# Altium schematic symbol library jlcpcb_2025_04_capacitors_extended_1812.schlib: 342 symbols (part 7 of 7)
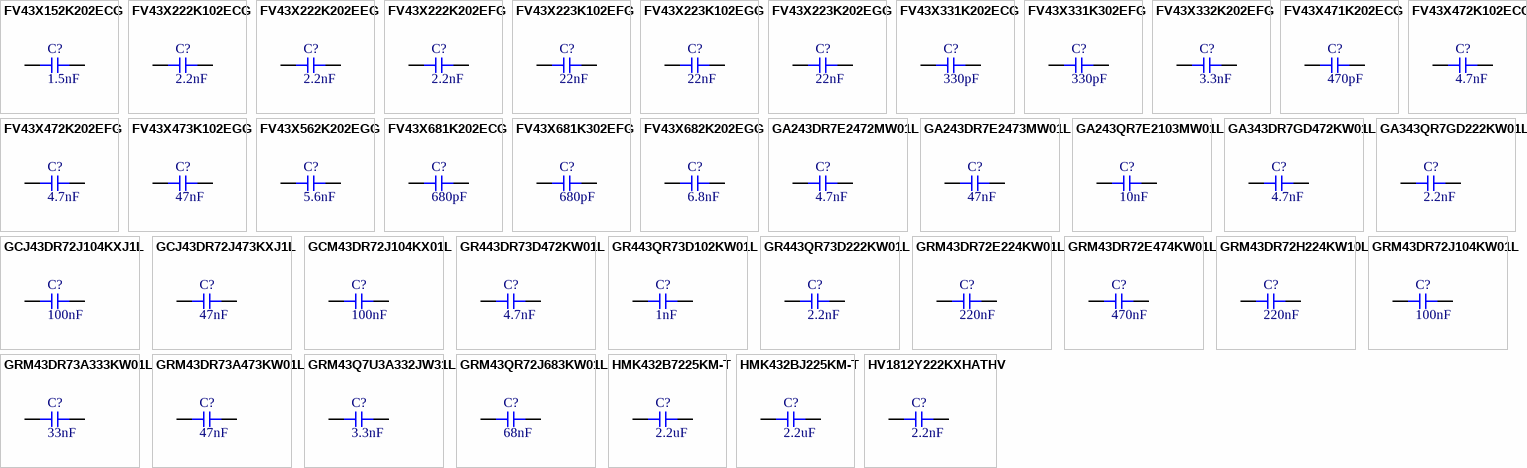
[diagram p14: symbols FV43X152K202ECG to HV1812Y222KXHATHV]

## GA343QR7GD222KW01L
designator C?  Capacitance: 2.2nF  (hidden comment: *)
Capacitor, Ceramic (MLCC), 2.2nF, ±10%, 250V, X7R, ±10%, SMD 1812; Manufacturer: Murata Electronics; Manufacturer Part Number: GA343QR7GD222KW01L; Package Size: 1812; JLCPCB Basic Part: No; JLCPCB Part Number: C161102; Supplier 1: LCSC; Category: Capacitors - MLCC; Supplier Part Number 1: C161102; Tolerance: ±10%; Voltage Rating: 250V; Temperature Coefficient: X7R; RoHS: Yes; ComponentLink1Description: Datasheet; ComponentLink1URL: https://wmsc.lcsc.com/wmsc/upload/file/pdf/v2/lcsc/1808140041_Murata-Electronics-GA343QR7GD222KW01L_C161102.pdf; ComponentLink2Description: JLCPCB Part URL; ComponentLink2URL: https://jlcpcb.com/partdetail/C161102; ComponentLink3Description: LCSC Part URL; ComponentLink3URL: https://lcsc.com/product-detail/Multilayer-Ceramic-Capacitors-MLCC---SMD-SMT_Murata-Electronics-Murata-Electronics-GA343QR7GD222KW01L_C161102.html
footprint CAP-1812 (1812 (4532M) Capacitor)
pins: 1, 2

## GCJ43DR72J104KXJ1L
designator C?  Capacitance: 100nF  (hidden comment: *)
Capacitor, Ceramic (MLCC), 100nF, ±10%, 630V, X7R, ±10%, SMD 1812; Manufacturer: Murata Electronics; Manufacturer Part Number: GCJ43DR72J104KXJ1L; Package Size: 1812; JLCPCB Basic Part: No; JLCPCB Part Number: C161126; Supplier 1: LCSC; Category: Capacitors - MLCC; Supplier Part Number 1: C161126; Tolerance: ±10%; Voltage Rating: 630V; Temperature Coefficient: X7R; RoHS: Yes; ComponentLink1Description: Datasheet; ComponentLink1URL: https://wmsc.lcsc.com/wmsc/upload/file/pdf/v2/lcsc/1808140041_Murata-Electronics-GCJ43DR72J104KXJ1L_C161126.pdf; ComponentLink2Description: JLCPCB Part URL; ComponentLink2URL: https://jlcpcb.com/partdetail/C161126; ComponentLink3Description: LCSC Part URL; ComponentLink3URL: https://lcsc.com/product-detail/Multilayer-Ceramic-Capacitors-MLCC---SMD-SMT_Murata-Electronics-Murata-Electronics-GCJ43DR72J104KXJ1L_C161126.html
footprint CAP-1812 (1812 (4532M) Capacitor)
pins: 1, 2

## GCJ43DR72J473KXJ1L
designator C?  Capacitance: 47nF  (hidden comment: *)
Capacitor, Ceramic (MLCC), 47nF, ±10%, 630V, X7R, ±10%, SMD 1812; Manufacturer: Murata Electronics; Manufacturer Part Number: GCJ43DR72J473KXJ1L; Package Size: 1812; JLCPCB Basic Part: No; JLCPCB Part Number: C161127; Supplier 1: LCSC; Category: Capacitors - MLCC; Supplier Part Number 1: C161127; Tolerance: ±10%; Voltage Rating: 630V; Temperature Coefficient: X7R; RoHS: Yes; ComponentLink1Description: Datasheet; ComponentLink1URL: https://wmsc.lcsc.com/wmsc/upload/file/pdf/v2/lcsc/1809172039_Murata-Electronics-GCJ43DR72J473KXJ1L_C161127.pdf; ComponentLink2Description: JLCPCB Part URL; ComponentLink2URL: https://jlcpcb.com/partdetail/C161127; ComponentLink3Description: LCSC Part URL; ComponentLink3URL: https://lcsc.com/product-detail/Multilayer-Ceramic-Capacitors-MLCC---SMD-SMT_Murata-Electronics-Murata-Electronics-GCJ43DR72J473KXJ1L_C161127.html
footprint CAP-1812 (1812 (4532M) Capacitor)
pins: 1, 2

## GCM43DR72J104KX01L
designator C?  Capacitance: 100nF  (hidden comment: *)
Capacitor, Ceramic (MLCC), 100nF, ±10%, 630V, X7R, ±10%, SMD 1812; Manufacturer: Murata Electronics; Manufacturer Part Number: GCM43DR72J104KX01L; Package Size: 1812; JLCPCB Basic Part: No; JLCPCB Part Number: C907754; Supplier 1: LCSC; Category: Capacitors - MLCC; Supplier Part Number 1: C907754; Tolerance: ±10%; Voltage Rating: 630V; Temperature Coefficient: X7R; RoHS: Yes; ComponentLink1Description: Datasheet; ComponentLink1URL: https://wmsc.lcsc.com/wmsc/upload/file/pdf/v2/lcsc/2206301900_Murata-Electronics-GCM43DR72J104KX01L_C907754.pdf; ComponentLink2Description: JLCPCB Part URL; ComponentLink2URL: https://jlcpcb.com/partdetail/C907754; ComponentLink3Description: LCSC Part URL; ComponentLink3URL: https://lcsc.com/product-detail/Multilayer-Ceramic-Capacitors-MLCC---SMD-SMT_Murata-Electronics-Murata-Electronics-GCM43DR72J104KX01L_C907754.html
footprint CAP-1812 (1812 (4532M) Capacitor)
pins: 1, 2

## GR443DR73D472KW01L
designator C?  Capacitance: 4.7nF  (hidden comment: *)
Capacitor, Ceramic (MLCC), 4.7nF, ±10%, 2kV, X7R, ±10%, SMD 1812; Manufacturer: Murata Electronics; Manufacturer Part Number: GR443DR73D472KW01L; Package Size: 1812; JLCPCB Basic Part: No; JLCPCB Part Number: C161356; Supplier 1: LCSC; Category: Capacitors - MLCC; Supplier Part Number 1: C161356; Tolerance: ±10%; Voltage Rating: 2kV; Temperature Coefficient: X7R; RoHS: Yes; ComponentLink1Description: Datasheet; ComponentLink1URL: https://wmsc.lcsc.com/wmsc/upload/file/pdf/v2/lcsc/1808280516_Murata-Electronics-GR443DR73D472KW01L_C161356.pdf; ComponentLink2Description: JLCPCB Part URL; ComponentLink2URL: https://jlcpcb.com/partdetail/C161356; ComponentLink3Description: LCSC Part URL; ComponentLink3URL: https://lcsc.com/product-detail/Multilayer-Ceramic-Capacitors-MLCC---SMD-SMT_Murata-Electronics-Murata-Electronics-GR443DR73D472KW01L_C161356.html
footprint CAP-1812 (1812 (4532M) Capacitor)
pins: 1, 2

## GR443QR73D102KW01L
designator C?  Capacitance: 1nF  (hidden comment: *)
Capacitor, Ceramic (MLCC), 1nF, ±10%, 2kV, X7R, ±10%, SMD 1812; Manufacturer: Murata Electronics; Manufacturer Part Number: GR443QR73D102KW01L; Package Size: 1812; JLCPCB Basic Part: No; JLCPCB Part Number: C161357; Supplier 1: LCSC; Category: Capacitors - MLCC; Supplier Part Number 1: C161357; Tolerance: ±10%; Voltage Rating: 2kV; Temperature Coefficient: X7R; RoHS: Yes; ComponentLink1Description: Datasheet; ComponentLink1URL: https://wmsc.lcsc.com/wmsc/upload/file/pdf/v2/lcsc/1808280516_Murata-Electronics-GR443QR73D102KW01L_C161357.pdf; ComponentLink2Description: JLCPCB Part URL; ComponentLink2URL: https://jlcpcb.com/partdetail/C161357; ComponentLink3Description: LCSC Part URL; ComponentLink3URL: https://lcsc.com/product-detail/Multilayer-Ceramic-Capacitors-MLCC---SMD-SMT_Murata-Electronics-Murata-Electronics-GR443QR73D102KW01L_C161357.html
footprint CAP-1812 (1812 (4532M) Capacitor)
pins: 1, 2

## GR443QR73D222KW01L
designator C?  Capacitance: 2.2nF  (hidden comment: *)
Capacitor, Ceramic (MLCC), 2.2nF, ±10%, 2kV, X7R, ±10%, SMD 1812; Manufacturer: Murata Electronics; Manufacturer Part Number: GR443QR73D222KW01L; Package Size: 1812; JLCPCB Basic Part: No; JLCPCB Part Number: C85886; Supplier 1: LCSC; Category: Capacitors - MLCC; Supplier Part Number 1: C85886; Tolerance: ±10%; Voltage Rating: 2kV; Temperature Coefficient: X7R; RoHS: Yes; ComponentLink1Description: Datasheet; ComponentLink1URL: https://wmsc.lcsc.com/wmsc/upload/file/pdf/v2/lcsc/2304140030_Murata-Electronics-GR443QR73D222KW01L_C85886.pdf; ComponentLink2Description: JLCPCB Part URL; ComponentLink2URL: https://jlcpcb.com/partdetail/C85886; ComponentLink3Description: LCSC Part URL; ComponentLink3URL: https://lcsc.com/product-detail/Multilayer-Ceramic-Capacitors-MLCC---SMD-SMT_Murata-Electronics-Murata-Electronics-GR443QR73D222KW01L_C85886.html
footprint CAP-1812 (1812 (4532M) Capacitor)
pins: 1, 2

## GRM43DR72E224KW01L
designator C?  Capacitance: 220nF  (hidden comment: *)
Capacitor, Ceramic (MLCC), 220nF, ±10%, 250V, X7R, ±10%, SMD 1812; Manufacturer: Murata Electronics; Manufacturer Part Number: GRM43DR72E224KW01L; Package Size: 1812; JLCPCB Basic Part: No; JLCPCB Part Number: C913726; Supplier 1: LCSC; Category: Capacitors - MLCC; Supplier Part Number 1: C913726; Tolerance: ±10%; Voltage Rating: 250V; Temperature Coefficient: X7R; RoHS: Yes; ComponentLink1Description: Datasheet; ComponentLink1URL: https://wmsc.lcsc.com/wmsc/upload/file/pdf/v2/lcsc/2201131300_Murata-Electronics-GRM43DR72E224KW01L_C913726.pdf; ComponentLink2Description: JLCPCB Part URL; ComponentLink2URL: https://jlcpcb.com/partdetail/C913726; ComponentLink3Description: LCSC Part URL; ComponentLink3URL: https://lcsc.com/product-detail/Multilayer-Ceramic-Capacitors-MLCC---SMD-SMT_Murata-Electronics-Murata-Electronics-GRM43DR72E224KW01L_C913726.html
footprint CAP-1812 (1812 (4532M) Capacitor)
pins: 1, 2

## GRM43DR72E474KW01L
designator C?  Capacitance: 470nF  (hidden comment: *)
Capacitor, Ceramic (MLCC), 470nF, ±10%, 250V, X7R, ±10%, SMD 1812; Manufacturer: Murata Electronics; Manufacturer Part Number: GRM43DR72E474KW01L; Package Size: 1812; JLCPCB Basic Part: No; JLCPCB Part Number: C86055; Supplier 1: LCSC; Category: Capacitors - MLCC; Supplier Part Number 1: C86055; Tolerance: ±10%; Voltage Rating: 250V; Temperature Coefficient: X7R; RoHS: Yes; ComponentLink1Description: Datasheet; ComponentLink1URL: https://wmsc.lcsc.com/wmsc/upload/file/pdf/v2/lcsc/2304140030_Murata-Electronics-GRM43DR72E474KW01L_C86055.pdf; ComponentLink2Description: JLCPCB Part URL; ComponentLink2URL: https://jlcpcb.com/partdetail/C86055; ComponentLink3Description: LCSC Part URL; ComponentLink3URL: https://lcsc.com/product-detail/Multilayer-Ceramic-Capacitors-MLCC---SMD-SMT_Murata-Electronics-Murata-Electronics-GRM43DR72E474KW01L_C86055.html
footprint CAP-1812 (1812 (4532M) Capacitor)
pins: 1, 2

## GRM43DR72H224KW10L
designator C?  Capacitance: 220nF  (hidden comment: *)
Capacitor, Ceramic (MLCC), 220nF, ±10%, 500V, X7R, ±10%, SMD 1812; Manufacturer: Murata Electronics; Manufacturer Part Number: GRM43DR72H224KW10L; Package Size: 1812; JLCPCB Basic Part: No; JLCPCB Part Number: C162519; Supplier 1: LCSC; Category: Capacitors - MLCC; Supplier Part Number 1: C162519; Tolerance: ±10%; Voltage Rating: 500V; Temperature Coefficient: X7R; RoHS: Yes; ComponentLink1Description: Datasheet; ComponentLink1URL: https://wmsc.lcsc.com/wmsc/upload/file/pdf/v2/lcsc/1810092142_Murata-Electronics-GRM43DR72H224KW10L_C162519.pdf; ComponentLink2Description: JLCPCB Part URL; ComponentLink2URL: https://jlcpcb.com/partdetail/C162519; ComponentLink3Description: LCSC Part URL; ComponentLink3URL: https://lcsc.com/product-detail/Multilayer-Ceramic-Capacitors-MLCC---SMD-SMT_Murata-Electronics-Murata-Electronics-GRM43DR72H224KW10L_C162519.html
footprint CAP-1812 (1812 (4532M) Capacitor)
pins: 1, 2

## GRM43DR72J104KW01L
designator C?  Capacitance: 100nF  (hidden comment: *)
Capacitor, Ceramic (MLCC), 100nF, ±10%, 630V, X7R, ±10%, SMD 1812; Manufacturer: Murata Electronics; Manufacturer Part Number: GRM43DR72J104KW01L; Package Size: 1812; JLCPCB Basic Part: No; JLCPCB Part Number: C23743; Supplier 1: LCSC; Category: Capacitors - MLCC; Supplier Part Number 1: C23743; Tolerance: ±10%; Voltage Rating: 630V; Temperature Coefficient: X7R; RoHS: Yes; ComponentLink1Description: Datasheet; ComponentLink1URL: https://wmsc.lcsc.com/wmsc/upload/file/pdf/v2/lcsc/1810101610_Murata-Electronics-GRM43DR72J104KW01L_C23743.pdf; ComponentLink2Description: JLCPCB Part URL; ComponentLink2URL: https://jlcpcb.com/partdetail/C23743; ComponentLink3Description: LCSC Part URL; ComponentLink3URL: https://lcsc.com/product-detail/Multilayer-Ceramic-Capacitors-MLCC---SMD-SMT_Murata-Electronics-Murata-Electronics-GRM43DR72J104KW01L_C23743.html
footprint CAP-1812 (1812 (4532M) Capacitor)
pins: 1, 2

## GRM43DR73A333KW01L
designator C?  Capacitance: 33nF  (hidden comment: *)
Capacitor, Ceramic (MLCC), 33nF, ±10%, 1kV, X7R, ±10%, SMD 1812; Manufacturer: Murata Electronics; Manufacturer Part Number: GRM43DR73A333KW01L; Package Size: 1812; JLCPCB Basic Part: No; JLCPCB Part Number: C97977; Supplier 1: LCSC; Category: Capacitors - MLCC; Supplier Part Number 1: C97977; Tolerance: ±10%; Voltage Rating: 1kV; Temperature Coefficient: X7R; RoHS: Yes; ComponentLink1Description: Datasheet; ComponentLink1URL: https://wmsc.lcsc.com/wmsc/upload/file/pdf/v2/lcsc/1809172036_Murata-Electronics-GRM43DR73A333KW01L_C97977.pdf; ComponentLink2Description: JLCPCB Part URL; ComponentLink2URL: https://jlcpcb.com/partdetail/C97977; ComponentLink3Description: LCSC Part URL; ComponentLink3URL: https://lcsc.com/product-detail/Multilayer-Ceramic-Capacitors-MLCC---SMD-SMT_Murata-Electronics-Murata-Electronics-GRM43DR73A333KW01L_C97977.html
footprint CAP-1812 (1812 (4532M) Capacitor)
pins: 1, 2

## GRM43DR73A473KW01L
designator C?  Capacitance: 47nF  (hidden comment: *)
Capacitor, Ceramic (MLCC), 47nF, ±10%, 1kV, X7R, ±10%, SMD 1812; Manufacturer: Murata Electronics; Manufacturer Part Number: GRM43DR73A473KW01L; Package Size: 1812; JLCPCB Basic Part: No; JLCPCB Part Number: C97978; Supplier 1: LCSC; Category: Capacitors - MLCC; Supplier Part Number 1: C97978; Tolerance: ±10%; Voltage Rating: 1kV; Temperature Coefficient: X7R; RoHS: Yes; ComponentLink1Description: Datasheet; ComponentLink1URL: https://wmsc.lcsc.com/wmsc/upload/file/pdf/v2/lcsc/1809172036_Murata-Electronics-GRM43DR73A473KW01L_C97978.pdf; ComponentLink2Description: JLCPCB Part URL; ComponentLink2URL: https://jlcpcb.com/partdetail/C97978; ComponentLink3Description: LCSC Part URL; ComponentLink3URL: https://lcsc.com/product-detail/Multilayer-Ceramic-Capacitors-MLCC---SMD-SMT_Murata-Electronics-Murata-Electronics-GRM43DR73A473KW01L_C97978.html
footprint CAP-1812 (1812 (4532M) Capacitor)
pins: 1, 2

## GRM43Q7U3A332JW31L
designator C?  Capacitance: 3.3nF  (hidden comment: *)
Capacitor, Ceramic (MLCC), 3.3nF, ±5%, 1kV, U2J, ±5%, SMD 1812; Manufacturer: Murata Electronics; Manufacturer Part Number: GRM43Q7U3A332JW31L; Package Size: 1812; JLCPCB Basic Part: No; JLCPCB Part Number: C162520; Supplier 1: LCSC; Category: Capacitors - MLCC; Supplier Part Number 1: C162520; Tolerance: ±5%; Voltage Rating: 1kV; Temperature Coefficient: U2J; RoHS: Yes; ComponentLink1Description: Datasheet; ComponentLink1URL: https://wmsc.lcsc.com/wmsc/upload/file/pdf/v2/lcsc/1808140034_Murata-Electronics-GRM43Q7U3A332JW31L_C162520.pdf; ComponentLink2Description: JLCPCB Part URL; ComponentLink2URL: https://jlcpcb.com/partdetail/C162520; ComponentLink3Description: LCSC Part URL; ComponentLink3URL: https://lcsc.com/product-detail/Multilayer-Ceramic-Capacitors-MLCC---SMD-SMT_Murata-Electronics-Murata-Electronics-GRM43Q7U3A332JW31L_C162520.html
footprint CAP-1812 (1812 (4532M) Capacitor)
pins: 1, 2

## GRM43QR72J683KW01L
designator C?  Capacitance: 68nF  (hidden comment: *)
Capacitor, Ceramic (MLCC), 68nF, ±10%, 630V, X7R, ±10%, SMD 1812; Manufacturer: Murata Electronics; Manufacturer Part Number: GRM43QR72J683KW01L; Package Size: 1812; JLCPCB Basic Part: No; JLCPCB Part Number: C162521; Supplier 1: LCSC; Category: Capacitors - MLCC; Supplier Part Number 1: C162521; Tolerance: ±10%; Voltage Rating: 630V; Temperature Coefficient: X7R; RoHS: Yes; ComponentLink1Description: Datasheet; ComponentLink1URL: https://wmsc.lcsc.com/wmsc/upload/file/pdf/v2/lcsc/2304140030_Murata-Electronics-GRM43QR72J683KW01L_C162521.pdf; ComponentLink2Description: JLCPCB Part URL; ComponentLink2URL: https://jlcpcb.com/partdetail/C162521; ComponentLink3Description: LCSC Part URL; ComponentLink3URL: https://lcsc.com/product-detail/Multilayer-Ceramic-Capacitors-MLCC---SMD-SMT_Murata-Electronics-Murata-Electronics-GRM43QR72J683KW01L_C162521.html
footprint CAP-1812 (1812 (4532M) Capacitor)
pins: 1, 2

## HMK432B7225KM-T
designator C?  Capacitance: 2.2uF  (hidden comment: *)
Capacitor, Ceramic (MLCC), 2.2uF, ±10%, 100V, X7R, ±10%, SMD 1812; Manufacturer: Taiyo Yuden; Manufacturer Part Number: HMK432B7225KM-T; Package Size: 1812; JLCPCB Basic Part: No; JLCPCB Part Number: C319194; Supplier 1: LCSC; Category: Capacitors - MLCC; Supplier Part Number 1: C319194; Tolerance: ±10%; Voltage Rating: 100V; Temperature Coefficient: X7R; RoHS: Yes; ComponentLink1Description: Datasheet; ComponentLink1URL: https://wmsc.lcsc.com/wmsc/upload/file/pdf/v2/lcsc/2211282230_Taiyo-Yuden-HMK432B7225KM-T_C319194.pdf; ComponentLink2Description: JLCPCB Part URL; ComponentLink2URL: https://jlcpcb.com/partdetail/C319194; ComponentLink3Description: LCSC Part URL; ComponentLink3URL: https://lcsc.com/product-detail/Multilayer-Ceramic-Capacitors-MLCC---SMD-SMT_Taiyo-Yuden-Taiyo-Yuden-HMK432B7225KM-T_C319194.html
footprint CAP-1812 (1812 (4532M) Capacitor)
pins: 1, 2

## HMK432BJ225KM-T
designator C?  Capacitance: 2.2uF  (hidden comment: *)
Capacitor, Ceramic (MLCC), 2.2uF, ±10%, 100V, X5R, ±10%, SMD 1812; Manufacturer: Taiyo Yuden; Manufacturer Part Number: HMK432BJ225KM-T; Package Size: 1812; JLCPCB Basic Part: No; JLCPCB Part Number: C524995; Supplier 1: LCSC; Category: Capacitors - MLCC; Supplier Part Number 1: C524995; Tolerance: ±10%; Voltage Rating: 100V; Temperature Coefficient: X5R; RoHS: Yes; ComponentLink1Description: Datasheet; ComponentLink1URL: https://wmsc.lcsc.com/wmsc/upload/file/pdf/v2/lcsc/2211282200_Taiyo-Yuden-HMK432BJ225KM-T_C524995.pdf; ComponentLink2Description: JLCPCB Part URL; ComponentLink2URL: https://jlcpcb.com/partdetail/C524995; ComponentLink3Description: LCSC Part URL; ComponentLink3URL: https://lcsc.com/product-detail/Multilayer-Ceramic-Capacitors-MLCC---SMD-SMT_Taiyo-Yuden-Taiyo-Yuden-HMK432BJ225KM-T_C524995.html
footprint CAP-1812 (1812 (4532M) Capacitor)
pins: 1, 2

## HV1812Y222KXHATHV
designator C?  Capacitance: 2.2nF  (hidden comment: *)
Capacitor, Ceramic (MLCC), 2.2nF, ±10%, 3kV, X7R, ±10%, SMD 1812; Manufacturer: Vishay Intertech; Manufacturer Part Number: HV1812Y222KXHATHV; Package Size: 1812; JLCPCB Basic Part: No; JLCPCB Part Number: C2182620; Supplier 1: LCSC; Category: Capacitors - MLCC; Supplier Part Number 1: C2182620; Tolerance: ±10%; Voltage Rating: 3kV; Temperature Coefficient: X7R; RoHS: Yes; ComponentLink1Description: Datasheet; ComponentLink1URL: https://wmsc.lcsc.com/wmsc/upload/file/pdf/v2/lcsc/2304140030_Vishay-Intertech-HV1812Y222KXHATHV_C2182620.pdf; ComponentLink2Description: JLCPCB Part URL; ComponentLink2URL: https://jlcpcb.com/partdetail/C2182620; ComponentLink3Description: LCSC Part URL; ComponentLink3URL: https://lcsc.com/product-detail/Multilayer-Ceramic-Capacitors-MLCC---SMD-SMT_Vishay-Intertech-Vishay-Intertech-HV1812Y222KXHATHV_C2182620.html
footprint CAP-1812 (1812 (4532M) Capacitor)
pins: 1, 2

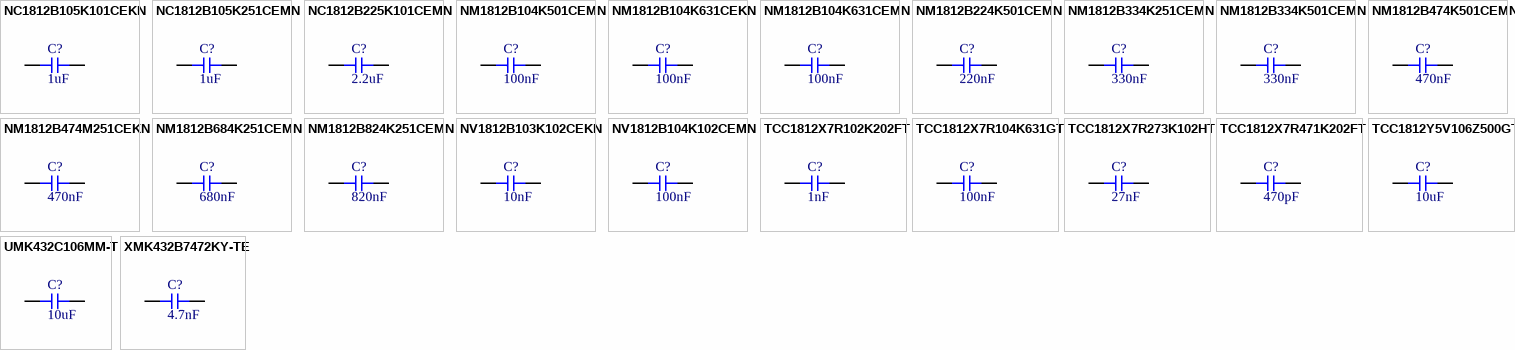
[diagram p8: symbols NC1812B105K101CEKN to XMK432B7472KY-TE]

## NC1812B105K101CEKN
designator C?  Capacitance: 1uF  (hidden comment: *)
Capacitor, Ceramic (MLCC), 1uF, ±10%, 100V, ±10%, SMD 1812; Manufacturer: HUI JU; Manufacturer Part Number: NC1812B105K101CEKN; Package Size: 1812; JLCPCB Basic Part: No; JLCPCB Part Number: C1884498; Supplier 1: LCSC; Category: Capacitors - MLCC; Supplier Part Number 1: C1884498; Tolerance: ±10%; Voltage Rating: 100V; RoHS: Yes; ComponentLink1Description: Datasheet; ComponentLink1URL: https://wmsc.lcsc.com/wmsc/upload/file/pdf/v2/lcsc/2304140030_HUI-JU-NC1812B105K101CEKN_C1884498.pdf; ComponentLink2Description: JLCPCB Part URL; ComponentLink2URL: https://jlcpcb.com/partdetail/C1884498; ComponentLink3Description: LCSC Part URL; ComponentLink3URL: https://lcsc.com/product-detail/Multilayer-Ceramic-Capacitors-MLCC---SMD-SMT_HUI-JU-HUI-JU-NC1812B105K101CEKN_C1884498.html
footprint CAP-1812 (1812 (4532M) Capacitor)
pins: 1, 2

## NC1812B105K251CEMN
designator C?  Capacitance: 1uF  (hidden comment: *)
Capacitor, Ceramic (MLCC), 1uF, ±10%, 250V, X7R, ±10%, SMD 1812; Manufacturer: HUI JU; Manufacturer Part Number: NC1812B105K251CEMN; Package Size: 1812; JLCPCB Basic Part: No; JLCPCB Part Number: C840322; Supplier 1: LCSC; Category: Capacitors - MLCC; Supplier Part Number 1: C840322; Tolerance: ±10%; Voltage Rating: 250V; Temperature Coefficient: X7R; RoHS: Yes; ComponentLink1Description: Datasheet; ComponentLink1URL: https://wmsc.lcsc.com/wmsc/upload/file/pdf/v2/lcsc/2304140030_HUI-JU-NC1812B105K251CEMN_C840322.pdf; ComponentLink2Description: JLCPCB Part URL; ComponentLink2URL: https://jlcpcb.com/partdetail/C840322; ComponentLink3Description: LCSC Part URL; ComponentLink3URL: https://lcsc.com/product-detail/Multilayer-Ceramic-Capacitors-MLCC---SMD-SMT_HUI-JU-HUI-JU-NC1812B105K251CEMN_C840322.html
footprint CAP-1812 (1812 (4532M) Capacitor)
pins: 1, 2

## NC1812B225K101CEMN
designator C?  Capacitance: 2.2uF  (hidden comment: *)
Capacitor, Ceramic (MLCC), 2.2uF, ±10%, 100V, X7R, ±10%, SMD 1812; Manufacturer: HUI JU; Manufacturer Part Number: NC1812B225K101CEMN; Package Size: 1812; JLCPCB Basic Part: No; JLCPCB Part Number: C840323; Supplier 1: LCSC; Category: Capacitors - MLCC; Supplier Part Number 1: C840323; Tolerance: ±10%; Voltage Rating: 100V; Temperature Coefficient: X7R; RoHS: Yes; ComponentLink1Description: Datasheet; ComponentLink1URL: https://wmsc.lcsc.com/wmsc/upload/file/pdf/v2/lcsc/2304140030_HUI-JU-NC1812B225K101CEMN_C840323.pdf; ComponentLink2Description: JLCPCB Part URL; ComponentLink2URL: https://jlcpcb.com/partdetail/C840323; ComponentLink3Description: LCSC Part URL; ComponentLink3URL: https://lcsc.com/product-detail/Multilayer-Ceramic-Capacitors-MLCC---SMD-SMT_HUI-JU-HUI-JU-NC1812B225K101CEMN_C840323.html
footprint CAP-1812 (1812 (4532M) Capacitor)
pins: 1, 2

## NM1812B104K501CEMN
designator C?  Capacitance: 100nF  (hidden comment: *)
Capacitor, Ceramic (MLCC), 100nF, ±10%, 500V, X7R, ±10%, SMD 1812; Manufacturer: HUI JU; Manufacturer Part Number: NM1812B104K501CEMN; Package Size: 1812; JLCPCB Basic Part: No; JLCPCB Part Number: C784434; Supplier 1: LCSC; Category: Capacitors - MLCC; Supplier Part Number 1: C784434; Tolerance: ±10%; Voltage Rating: 500V; Temperature Coefficient: X7R; RoHS: Yes; ComponentLink1Description: Datasheet; ComponentLink1URL: https://wmsc.lcsc.com/wmsc/upload/file/pdf/v2/lcsc/2304140030_HUI-JU-NM1812B104K501CEMN_C784434.pdf; ComponentLink2Description: JLCPCB Part URL; ComponentLink2URL: https://jlcpcb.com/partdetail/C784434; ComponentLink3Description: LCSC Part URL; ComponentLink3URL: https://lcsc.com/product-detail/Multilayer-Ceramic-Capacitors-MLCC---SMD-SMT_HUI-JU-HUI-JU-NM1812B104K501CEMN_C784434.html
footprint CAP-1812 (1812 (4532M) Capacitor)
pins: 1, 2

## NM1812B104K631CEKN
designator C?  Capacitance: 100nF  (hidden comment: *)
Capacitor, Ceramic (MLCC), 100nF, ±10%, 630V, X7R, ±10%, SMD 1812; Manufacturer: HUI JU; Manufacturer Part Number: NM1812B104K631CEKN; Package Size: 1812; JLCPCB Basic Part: No; JLCPCB Part Number: C710484; Supplier 1: LCSC; Category: Capacitors - MLCC; Supplier Part Number 1: C710484; Tolerance: ±10%; Voltage Rating: 630V; Temperature Coefficient: X7R; RoHS: Yes; ComponentLink1Description: Datasheet; ComponentLink1URL: https://wmsc.lcsc.com/wmsc/upload/file/pdf/v2/lcsc/2304140030_HUI-JU-NM1812B104K631CEKN_C710484.pdf; ComponentLink2Description: JLCPCB Part URL; ComponentLink2URL: https://jlcpcb.com/partdetail/C710484; ComponentLink3Description: LCSC Part URL; ComponentLink3URL: https://lcsc.com/product-detail/Multilayer-Ceramic-Capacitors-MLCC---SMD-SMT_HUI-JU-HUI-JU-NM1812B104K631CEKN_C710484.html
footprint CAP-1812 (1812 (4532M) Capacitor)
pins: 1, 2

## NM1812B104K631CEMN
designator C?  Capacitance: 100nF  (hidden comment: *)
Capacitor, Ceramic (MLCC), 100nF, ±10%, 630V, X7R, ±10%, SMD 1812; Manufacturer: HUI JU; Manufacturer Part Number: NM1812B104K631CEMN; Package Size: 1812; JLCPCB Basic Part: No; JLCPCB Part Number: C784435; Supplier 1: LCSC; Category: Capacitors - MLCC; Supplier Part Number 1: C784435; Tolerance: ±10%; Voltage Rating: 630V; Temperature Coefficient: X7R; RoHS: Yes; ComponentLink1Description: Datasheet; ComponentLink1URL: https://wmsc.lcsc.com/wmsc/upload/file/pdf/v2/lcsc/2304140030_HUI-JU-NM1812B104K631CEMN_C784435.pdf; ComponentLink2Description: JLCPCB Part URL; ComponentLink2URL: https://jlcpcb.com/partdetail/C784435; ComponentLink3Description: LCSC Part URL; ComponentLink3URL: https://lcsc.com/product-detail/Multilayer-Ceramic-Capacitors-MLCC---SMD-SMT_HUI-JU-HUI-JU-NM1812B104K631CEMN_C784435.html
footprint CAP-1812 (1812 (4532M) Capacitor)
pins: 1, 2

## NM1812B224K501CEMN
designator C?  Capacitance: 220nF  (hidden comment: *)
Capacitor, Ceramic (MLCC), 220nF, ±10%, 500V, ±10%, SMD 1812; Manufacturer: HUI JU; Manufacturer Part Number: NM1812B224K501CEMN; Package Size: 1812; JLCPCB Basic Part: No; JLCPCB Part Number: C841581; Supplier 1: LCSC; Category: Capacitors - MLCC; Supplier Part Number 1: C841581; Tolerance: ±10%; Voltage Rating: 500V; RoHS: Yes; ComponentLink1Description: Datasheet; ComponentLink1URL: https://wmsc.lcsc.com/wmsc/upload/file/pdf/v2/lcsc/2304140030_HUI-JU-NM1812B224K501CEMN_C841581.pdf; ComponentLink2Description: JLCPCB Part URL; ComponentLink2URL: https://jlcpcb.com/partdetail/C841581; ComponentLink3Description: LCSC Part URL; ComponentLink3URL: https://lcsc.com/product-detail/Multilayer-Ceramic-Capacitors-MLCC---SMD-SMT_HUI-JU-HUI-JU-NM1812B224K501CEMN_C841581.html
footprint CAP-1812 (1812 (4532M) Capacitor)
pins: 1, 2

## NM1812B334K251CEMN
designator C?  Capacitance: 330nF  (hidden comment: *)
Capacitor, Ceramic (MLCC), 330nF, ±10%, 250V, ±10%, SMD 1812; Manufacturer: HUI JU; Manufacturer Part Number: NM1812B334K251CEMN; Package Size: 1812; JLCPCB Basic Part: No; JLCPCB Part Number: C2760358; Supplier 1: LCSC; Category: Capacitors - MLCC; Supplier Part Number 1: C2760358; Tolerance: ±10%; Voltage Rating: 250V; RoHS: Yes; ComponentLink1Description: Datasheet; ComponentLink1URL: https://wmsc.lcsc.com/wmsc/upload/file/pdf/v2/lcsc/2304140030_HUI-JU-NM1812B334K251CEMN_C2760358.pdf; ComponentLink2Description: JLCPCB Part URL; ComponentLink2URL: https://jlcpcb.com/partdetail/C2760358; ComponentLink3Description: LCSC Part URL; ComponentLink3URL: https://lcsc.com/product-detail/Multilayer-Ceramic-Capacitors-MLCC---SMD-SMT_HUI-JU-HUI-JU-NM1812B334K251CEMN_C2760358.html
footprint CAP-1812 (1812 (4532M) Capacitor)
pins: 1, 2

## NM1812B334K501CEMN
designator C?  Capacitance: 330nF  (hidden comment: *)
Capacitor, Ceramic (MLCC), 330nF, ±10%, 500V, ±10%, SMD 1812; Manufacturer: HUI JU; Manufacturer Part Number: NM1812B334K501CEMN; Package Size: 1812; JLCPCB Basic Part: No; JLCPCB Part Number: C1884499; Supplier 1: LCSC; Category: Capacitors - MLCC; Supplier Part Number 1: C1884499; Tolerance: ±10%; Voltage Rating: 500V; RoHS: Yes; ComponentLink1Description: Datasheet; ComponentLink1URL: https://wmsc.lcsc.com/wmsc/upload/file/pdf/v2/lcsc/2304140030_HUI-JU-NM1812B334K501CEMN_C1884499.pdf; ComponentLink2Description: JLCPCB Part URL; ComponentLink2URL: https://jlcpcb.com/partdetail/C1884499; ComponentLink3Description: LCSC Part URL; ComponentLink3URL: https://lcsc.com/product-detail/Multilayer-Ceramic-Capacitors-MLCC---SMD-SMT_HUI-JU-HUI-JU-NM1812B334K501CEMN_C1884499.html
footprint CAP-1812 (1812 (4532M) Capacitor)
pins: 1, 2

## NM1812B474K501CEMN
designator C?  Capacitance: 470nF  (hidden comment: *)
Capacitor, Ceramic (MLCC), 470nF, 500V, SMD 1812; Manufacturer: HUI JU; Manufacturer Part Number: NM1812B474K501CEMN; Package Size: 1812; JLCPCB Basic Part: No; JLCPCB Part Number: C2760363; Supplier 1: LCSC; Category: Capacitors - MLCC; Supplier Part Number 1: C2760363; Voltage Rating: 500V; RoHS: Yes; ComponentLink1Description: Datasheet; ComponentLink1URL: https://wmsc.lcsc.com/wmsc/upload/file/pdf/v2/lcsc/2304140030_HUI-JU-NM1812B474K501CEMN_C2760363.pdf; ComponentLink2Description: JLCPCB Part URL; ComponentLink2URL: https://jlcpcb.com/partdetail/C2760363; ComponentLink3Description: LCSC Part URL; ComponentLink3URL: https://lcsc.com/product-detail/Multilayer-Ceramic-Capacitors-MLCC---SMD-SMT_HUI-JU-HUI-JU-NM1812B474K501CEMN_C2760363.html
footprint CAP-1812 (1812 (4532M) Capacitor)
pins: 1, 2

## NM1812B474M251CEKN
designator C?  Capacitance: 470nF  (hidden comment: *)
Capacitor, Ceramic (MLCC), 470nF, 250V, SMD 1812; Manufacturer: HUI JU; Manufacturer Part Number: NM1812B474M251CEKN; Package Size: 1812; JLCPCB Basic Part: No; JLCPCB Part Number: C2760360; Supplier 1: LCSC; Category: Capacitors - MLCC; Supplier Part Number 1: C2760360; Voltage Rating: 250V; RoHS: Yes; ComponentLink1Description: Datasheet; ComponentLink1URL: https://wmsc.lcsc.com/wmsc/upload/file/pdf/v2/lcsc/2304140030_HUI-JU-NM1812B474M251CEKN_C2760360.pdf; ComponentLink2Description: JLCPCB Part URL; ComponentLink2URL: https://jlcpcb.com/partdetail/C2760360; ComponentLink3Description: LCSC Part URL; ComponentLink3URL: https://lcsc.com/product-detail/Multilayer-Ceramic-Capacitors-MLCC---SMD-SMT_HUI-JU-HUI-JU-NM1812B474M251CEKN_C2760360.html
footprint CAP-1812 (1812 (4532M) Capacitor)
pins: 1, 2

## NM1812B684K251CEMN
designator C?  Capacitance: 680nF  (hidden comment: *)
Capacitor, Ceramic (MLCC), 680nF, ±10%, 250V, X7R, ±10%, SMD 1812; Manufacturer: HUI JU; Manufacturer Part Number: NM1812B684K251CEMN; Package Size: 1812; JLCPCB Basic Part: No; JLCPCB Part Number: C840324; Supplier 1: LCSC; Category: Capacitors - MLCC; Supplier Part Number 1: C840324; Tolerance: ±10%; Voltage Rating: 250V; Temperature Coefficient: X7R; RoHS: Yes; ComponentLink1Description: Datasheet; ComponentLink1URL: https://wmsc.lcsc.com/wmsc/upload/file/pdf/v2/lcsc/2304140030_HUI-JU-NM1812B684K251CEMN_C840324.pdf; ComponentLink2Description: JLCPCB Part URL; ComponentLink2URL: https://jlcpcb.com/partdetail/C840324; ComponentLink3Description: LCSC Part URL; ComponentLink3URL: https://lcsc.com/product-detail/Multilayer-Ceramic-Capacitors-MLCC---SMD-SMT_HUI-JU-HUI-JU-NM1812B684K251CEMN_C840324.html
footprint CAP-1812 (1812 (4532M) Capacitor)
pins: 1, 2

## NM1812B824K251CEMN
designator C?  Capacitance: 820nF  (hidden comment: *)
Capacitor, Ceramic (MLCC), 820nF, ±10%, 250V, X7R, ±10%, SMD 1812; Manufacturer: HUI JU; Manufacturer Part Number: NM1812B824K251CEMN; Package Size: 1812; JLCPCB Basic Part: No; JLCPCB Part Number: C840325; Supplier 1: LCSC; Category: Capacitors - MLCC; Supplier Part Number 1: C840325; Tolerance: ±10%; Voltage Rating: 250V; Temperature Coefficient: X7R; RoHS: Yes; ComponentLink1Description: Datasheet; ComponentLink1URL: https://wmsc.lcsc.com/wmsc/upload/file/pdf/v2/lcsc/2304140030_HUI-JU-NM1812B824K251CEMN_C840325.pdf; ComponentLink2Description: JLCPCB Part URL; ComponentLink2URL: https://jlcpcb.com/partdetail/C840325; ComponentLink3Description: LCSC Part URL; ComponentLink3URL: https://lcsc.com/product-detail/Multilayer-Ceramic-Capacitors-MLCC---SMD-SMT_HUI-JU-HUI-JU-NM1812B824K251CEMN_C840325.html
footprint CAP-1812 (1812 (4532M) Capacitor)
pins: 1, 2

## NV1812B103K102CEKN
designator C?  Capacitance: 10nF  (hidden comment: *)
Capacitor, Ceramic (MLCC), 10nF, ±10%, 1kV, ±10%, SMD 1812; Manufacturer: HUI JU; Manufacturer Part Number: NV1812B103K102CEKN; Package Size: 1812; JLCPCB Basic Part: No; JLCPCB Part Number: C841580; Supplier 1: LCSC; Category: Capacitors - MLCC; Supplier Part Number 1: C841580; Tolerance: ±10%; Voltage Rating: 1kV; RoHS: Yes; ComponentLink1Description: Datasheet; ComponentLink1URL: https://wmsc.lcsc.com/wmsc/upload/file/pdf/v2/lcsc/2304140030_HUI-JU-NV1812B103K102CEKN_C841580.pdf; ComponentLink2Description: JLCPCB Part URL; ComponentLink2URL: https://jlcpcb.com/partdetail/C841580; ComponentLink3Description: LCSC Part URL; ComponentLink3URL: https://lcsc.com/product-detail/Multilayer-Ceramic-Capacitors-MLCC---SMD-SMT_HUI-JU-HUI-JU-NV1812B103K102CEKN_C841580.html
footprint CAP-1812 (1812 (4532M) Capacitor)
pins: 1, 2

## NV1812B104K102CEMN
designator C?  Capacitance: 100nF  (hidden comment: *)
Capacitor, Ceramic (MLCC), 100nF, ±10%, 1kV, X7R, ±10%, SMD 1812; Manufacturer: HUI JU; Manufacturer Part Number: NV1812B104K102CEMN; Package Size: 1812; JLCPCB Basic Part: No; JLCPCB Part Number: C780707; Supplier 1: LCSC; Category: Capacitors - MLCC; Supplier Part Number 1: C780707; Tolerance: ±10%; Voltage Rating: 1kV; Temperature Coefficient: X7R; RoHS: Yes; ComponentLink1Description: Datasheet; ComponentLink1URL: https://wmsc.lcsc.com/wmsc/upload/file/pdf/v2/lcsc/2304140030_HUI-JU-NV1812B104K102CEMN_C780707.pdf; ComponentLink2Description: JLCPCB Part URL; ComponentLink2URL: https://jlcpcb.com/partdetail/C780707; ComponentLink3Description: LCSC Part URL; ComponentLink3URL: https://lcsc.com/product-detail/Multilayer-Ceramic-Capacitors-MLCC---SMD-SMT_HUI-JU-HUI-JU-NV1812B104K102CEMN_C780707.html
footprint CAP-1812 (1812 (4532M) Capacitor)
pins: 1, 2

## TCC1812X7R102K202FT
designator C?  Capacitance: 1nF  (hidden comment: *)
Capacitor, Ceramic (MLCC), 1nF, ±10%, 2kV, X7R, ±10%, SMD 1812; Manufacturer: CCTC; Manufacturer Part Number: TCC1812X7R102K202FT; Package Size: 1812; JLCPCB Basic Part: No; JLCPCB Part Number: C359185; Supplier 1: LCSC; Category: Capacitors - MLCC; Supplier Part Number 1: C359185; Tolerance: ±10%; Voltage Rating: 2kV; Temperature Coefficient: X7R; RoHS: Yes; ComponentLink1Description: Datasheet; ComponentLink1URL: https://wmsc.lcsc.com/wmsc/upload/file/pdf/v2/lcsc/2304140030_CCTC-TCC1812X7R102K202FT_C359185.pdf; ComponentLink2Description: JLCPCB Part URL; ComponentLink2URL: https://jlcpcb.com/partdetail/C359185; ComponentLink3Description: LCSC Part URL; ComponentLink3URL: https://lcsc.com/product-detail/Multilayer-Ceramic-Capacitors-MLCC---SMD-SMT_CCTC-CCTC-TCC1812X7R102K202FT_C359185.html
footprint CAP-1812 (1812 (4532M) Capacitor)
pins: 1, 2

## TCC1812X7R104K631GT
designator C?  Capacitance: 100nF  (hidden comment: *)
Capacitor, Ceramic (MLCC), 100nF, ±10%, 630V, X7R, ±10%, SMD 1812; Manufacturer: CCTC; Manufacturer Part Number: TCC1812X7R104K631GT; Package Size: 1812; JLCPCB Basic Part: No; JLCPCB Part Number: C377129; Supplier 1: LCSC; Category: Capacitors - MLCC; Supplier Part Number 1: C377129; Tolerance: ±10%; Voltage Rating: 630V; Temperature Coefficient: X7R; RoHS: Yes; ComponentLink1Description: Datasheet; ComponentLink1URL: https://wmsc.lcsc.com/wmsc/upload/file/pdf/v2/lcsc/2304140030_CCTC-TCC1812X7R104K631GT_C377129.pdf; ComponentLink2Description: JLCPCB Part URL; ComponentLink2URL: https://jlcpcb.com/partdetail/C377129; ComponentLink3Description: LCSC Part URL; ComponentLink3URL: https://lcsc.com/product-detail/Multilayer-Ceramic-Capacitors-MLCC---SMD-SMT_CCTC-CCTC-TCC1812X7R104K631GT_C377129.html
footprint CAP-1812 (1812 (4532M) Capacitor)
pins: 1, 2

## TCC1812X7R273K102HT
designator C?  Capacitance: 27nF  (hidden comment: *)
Capacitor, Ceramic (MLCC), 27nF, ±10%, 1kV, X7R, ±10%, SMD 1812; Manufacturer: CCTC; Manufacturer Part Number: TCC1812X7R273K102HT; Package Size: 1812; JLCPCB Basic Part: No; JLCPCB Part Number: C377132; Supplier 1: LCSC; Category: Capacitors - MLCC; Supplier Part Number 1: C377132; Tolerance: ±10%; Voltage Rating: 1kV; Temperature Coefficient: X7R; RoHS: Yes; ComponentLink1Description: Datasheet; ComponentLink1URL: https://wmsc.lcsc.com/wmsc/upload/file/pdf/v2/lcsc/2304140030_CCTC-TCC1812X7R273K102HT_C377132.pdf; ComponentLink2Description: JLCPCB Part URL; ComponentLink2URL: https://jlcpcb.com/partdetail/C377132; ComponentLink3Description: LCSC Part URL; ComponentLink3URL: https://lcsc.com/product-detail/Multilayer-Ceramic-Capacitors-MLCC---SMD-SMT_CCTC-CCTC-TCC1812X7R273K102HT_C377132.html
footprint CAP-1812 (1812 (4532M) Capacitor)
pins: 1, 2

## TCC1812X7R471K202FT
designator C?  Capacitance: 470pF  (hidden comment: *)
Capacitor, Ceramic (MLCC), 470pF, ±10%, 2kV, X7R, ±10%, SMD 1812; Manufacturer: CCTC; Manufacturer Part Number: TCC1812X7R471K202FT; Package Size: 1812; JLCPCB Basic Part: No; JLCPCB Part Number: C377135; Supplier 1: LCSC; Category: Capacitors - MLCC; Supplier Part Number 1: C377135; Tolerance: ±10%; Voltage Rating: 2kV; Temperature Coefficient: X7R; RoHS: Yes; ComponentLink1Description: Datasheet; ComponentLink1URL: https://wmsc.lcsc.com/wmsc/upload/file/pdf/v2/lcsc/2304140030_CCTC-TCC1812X7R471K202FT_C377135.pdf; ComponentLink2Description: JLCPCB Part URL; ComponentLink2URL: https://jlcpcb.com/partdetail/C377135; ComponentLink3Description: LCSC Part URL; ComponentLink3URL: https://lcsc.com/product-detail/Multilayer-Ceramic-Capacitors-MLCC---SMD-SMT_CCTC-CCTC-TCC1812X7R471K202FT_C377135.html
footprint CAP-1812 (1812 (4532M) Capacitor)
pins: 1, 2

## TCC1812Y5V106Z500GT
designator C?  Capacitance: 10uF  (hidden comment: *)
Capacitor, Ceramic (MLCC), 10uF, 50V, Y5V, SMD 1812; Manufacturer: CCTC; Manufacturer Part Number: TCC1812Y5V106Z500GT; Temperature Rating: -20%~+80%; Package Size: 1812; JLCPCB Basic Part: No; JLCPCB Part Number: C377138; Supplier 1: LCSC; Category: Capacitors - MLCC; Supplier Part Number 1: C377138; Voltage Rating: 50V; Temperature Coefficient: Y5V; RoHS: Yes; ComponentLink1Description: Datasheet; ComponentLink1URL: https://wmsc.lcsc.com/wmsc/upload/file/pdf/v2/lcsc/2304140030_CCTC-TCC1812Y5V106Z500GT_C377138.pdf; ComponentLink2Description: JLCPCB Part URL; ComponentLink2URL: https://jlcpcb.com/partdetail/C377138; ComponentLink3Description: LCSC Part URL; ComponentLink3URL: https://lcsc.com/product-detail/Multilayer-Ceramic-Capacitors-MLCC---SMD-SMT_CCTC-CCTC-TCC1812Y5V106Z500GT_C377138.html
footprint CAP-1812 (1812 (4532M) Capacitor)
pins: 1, 2

## UMK432C106MM-T
designator C?  Capacitance: 10uF  (hidden comment: *)
Capacitor, Ceramic (MLCC), 10uF, ±20%, null, X6S, ±20%, SMD 1812; Manufacturer: Taiyo Yuden; Manufacturer Part Number: UMK432C106MM-T; Package Size: 1812; JLCPCB Basic Part: No; JLCPCB Part Number: C3036149; Supplier 1: LCSC; Category: Capacitors - MLCC; Supplier Part Number 1: C3036149; Tolerance: ±20%; Voltage Rating: null; Temperature Coefficient: X6S; RoHS: Yes; ComponentLink1Description: Datasheet; ComponentLink1URL: https://wmsc.lcsc.com/wmsc/upload/file/pdf/v2/lcsc/2206141530_Taiyo-Yuden-UMK432C106MM-T_C3036149.pdf; ComponentLink2Description: JLCPCB Part URL; ComponentLink2URL: https://jlcpcb.com/partdetail/C3036149; ComponentLink3Description: LCSC Part URL; ComponentLink3URL: https://lcsc.com/product-detail/Multilayer-Ceramic-Capacitors-MLCC---SMD-SMT_Taiyo-Yuden-Taiyo-Yuden-UMK432C106MM-T_C3036149.html
footprint CAP-1812 (1812 (4532M) Capacitor)
pins: 1, 2

## XMK432B7472KY-TE
designator C?  Capacitance: 4.7nF  (hidden comment: *)
Capacitor, Ceramic (MLCC), 4.7nF, ±10%, 2kV, X7R, ±10%, SMD 1812; Manufacturer: Taiyo Yuden; Manufacturer Part Number: XMK432B7472KY-TE; Package Size: 1812; JLCPCB Basic Part: No; JLCPCB Part Number: C2182822; Supplier 1: LCSC; Category: Capacitors - MLCC; Supplier Part Number 1: C2182822; Tolerance: ±10%; Voltage Rating: 2kV; Temperature Coefficient: X7R; RoHS: Yes; ComponentLink1Description: Datasheet; ComponentLink1URL: https://wmsc.lcsc.com/wmsc/upload/file/pdf/v2/lcsc/2309051406_Taiyo-Yuden-XMK432B7472KY-TE_C2182822.pdf; ComponentLink2Description: JLCPCB Part URL; ComponentLink2URL: https://jlcpcb.com/partdetail/C2182822; ComponentLink3Description: LCSC Part URL; ComponentLink3URL: https://lcsc.com/product-detail/Multilayer-Ceramic-Capacitors-MLCC---SMD-SMT_Taiyo-Yuden-Taiyo-Yuden-XMK432B7472KY-TE_C2182822.html
footprint CAP-1812 (1812 (4532M) Capacitor)
pins: 1, 2